# Altium footprint library TransientBLE.PcbLib: 43 footprints (part 1 of 3)
Each footprint in its own frame and in the unit in brackets; x right, y up, seen from the top. Pads: shape width x height; smd on the part's side, far side on the other; paste and mask are expansions set on the pad; w line width, h text height; cw(c..) or ccw(c..) is an arc to the next point about the centre after c.
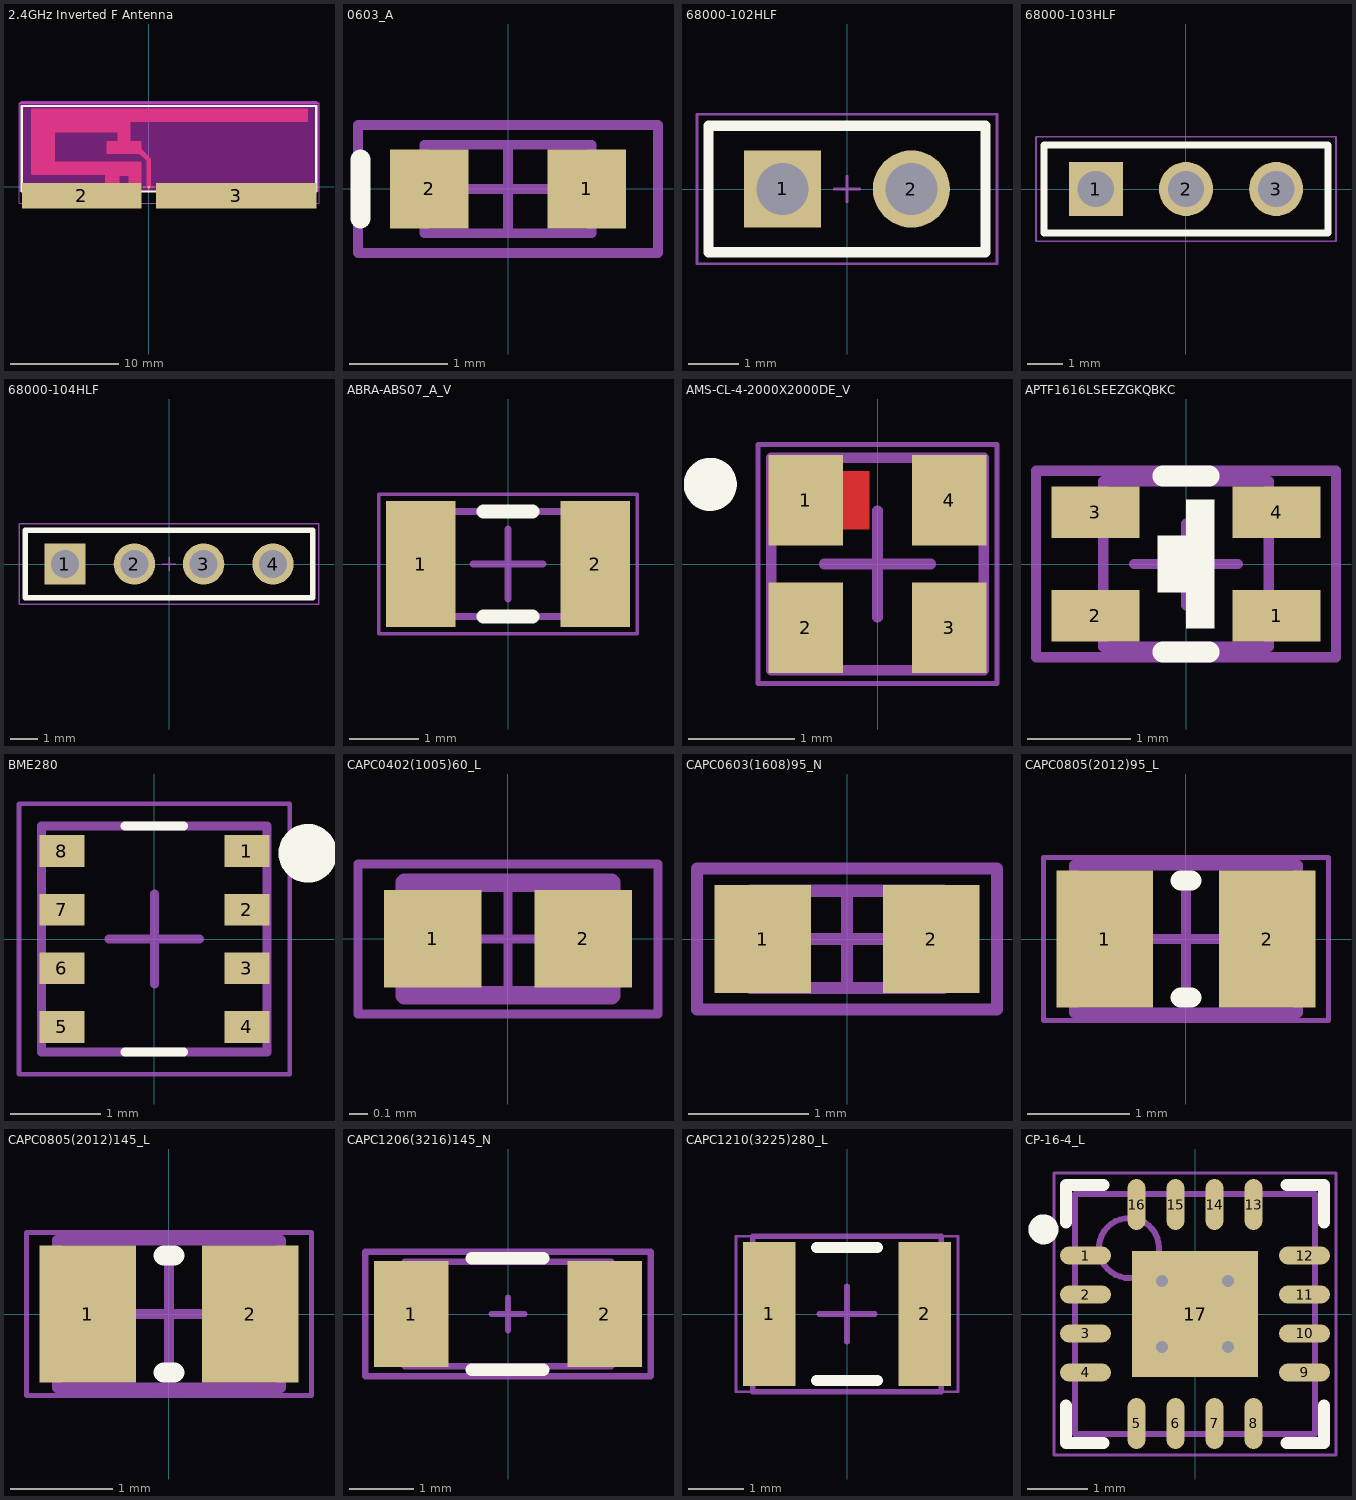
[diagram p0: the footprints below, top view; thin cyan lines are the x and y axes]

## 2.4GHz Inverted F Antenna [mm] "Antenna Patch, 2 pins, 1 side"
pads (3):
  rect 0.2x0.2 smd mask+0: 1(0,0)
  rect 11.06x2.355 smd: 2(-6.215,-0.823)
  rect 14.815x2.355 smd: 3(8.093,-0.823)
Top Layer:
  lines w0.203: -10.77,1.245 -0.787,1.245 ; -10.77,1.448 -0.787,1.448 ; -10.77,1.651 -0.787,1.651 ; -10.77,1.854 -0.787,1.854 ; -10.77,2.057 -0.787,2.057 ; -10.77,2.261 -0.787,2.261 ; -10.77,2.464 -8.787,2.464 ; -10.77,2.667 -8.787,2.667 ; -10.77,2.87 -8.787,2.87 ; -10.77,3.073 -8.787,3.073 ; -10.77,3.277 -8.787,3.277 ; -10.77,3.48 -8.787,3.48 ; -10.77,3.683 -8.787,3.683 ; -10.77,3.886 -8.787,3.886 ; -10.77,4.089 -8.787,4.089 ; -10.77,4.293 -8.787,4.293 ; -10.77,4.496 -8.787,4.496 ; -10.77,4.699 -8.787,4.699 ; -10.77,4.902 -8.787,4.902 ; -10.77,5.105 -8.787,5.105 ; -10.77,5.309 -1.787,5.309 ; -10.77,5.512 -1.787,5.512 ; -10.77,5.715 -1.787,5.715 ; -10.77,5.918 -1.787,5.918 ; -10.77,6.121 -1.787,6.121 ; -10.77,6.325 14.63,6.325 ; -10.77,6.528 14.63,6.528 ; -10.77,6.731 14.63,6.731 ; -10.77,6.934 14.63,6.934 ; -3.937,0.229 -2.787,0.229 ; -3.937,0.432 -2.787,0.432 ; -3.937,0.635 -2.787,0.635 ; -3.937,0.838 -2.787,0.838 ; -3.937,1.041 -2.787,1.041 ; -3.787,3.277 -0.787,3.277 ; -3.787,3.48 -0.787,3.48 ; -3.787,3.683 -0.787,3.683 ; -3.787,3.886 -0.787,3.886 ; -3.787,4.089 -0.787,4.089 ; -2.787,4.293 -1.787,4.293 ; -2.787,4.496 -1.787,4.496 ; -2.787,4.699 -1.787,4.699 ; -2.787,4.902 -1.787,4.902 ; -2.787,5.105 -1.787,5.105 ; -1.787,0.229 -0.787,0.229 ; -1.787,0.432 -0.787,0.432 ; -1.787,0.635 -0.787,0.635 ; -1.787,0.838 -0.787,0.838 ; -1.787,1.041 -0.787,1.041 ; -0.787,2.261 -0.787,0.127 -1.787,0.127 -1.787,1.127 -2.787,1.127 -2.787,0.127 -3.937,0.127 -3.937,1.168 -10.236,1.194 -10.77,1.194 -10.77,7.137 14.63,7.137 14.63,6.127 -1.787,6.127 -1.787,4.127 -0.787,4.127 -0.787,3.127 -3.787,3.127 -3.787,4.127 -2.787,4.127 -2.787,5.127 -8.787,5.127 -8.787,2.261 -0.787,2.261
  lines w0.457: -0.854,3.375 0,2.521 0,0
Top Overlay:
  lines w0.2: -11.75,-0.42 -11.75,7.5 15.5,7.5 15.5,-0.42 -11.75,-0.42
Mechanical 1:
  lines w0.2: -11.75,7.849 15.5,7.849
  text "Board Edge" at -5.5,8.75 h1.52
Mechanical 15:
  lines w0.05: -12,-1.5 -12,7.75 15.75,7.75 15.75,-1.5 -12,-1.5
  lines w0.1: -0.5,0 0.5,0 ; 0,-0.5 0,0.5
Multi-Layer keep-out:
  region: -12,7.849 15.75,7.849 15.75,-0.42 -12,-0.42

## 0603_A [mm] "Chip LED, 2-Leads, Body 1.6x0.8mm, IPC Medium Density"
height 0.68
pads (2):
  rect 0.8x0.8 smd: 1(0.8,0) 2(-0.8,0)
Top Overlay:
  lines w0.2: -1.5,-0.3 -1.5,0.3
Mechanical 13:
  lines w0.1: -0.85,-0.45 -0.85,0.45 0.85,0.45 0.85,-0.45 -0.85,-0.45
Mechanical 15:
  lines w0.1: -0.45,0 0.45,0 ; 0,-0.45 0,0.45 ; -1.525,-0.65 -1.525,0.65 1.525,0.65 1.525,-0.65 -1.525,-0.65
3D body "WL-SMCW_0603_LED.stp": height 0.7, standoff 0, extent -0.8,-0.4 0.8,0.4

## 68000-102HLF [mm] "Terminal Assembly, 1x2 Pins, Vertical, 2.54mm Pitch, Male"
height 8.25
pads (2):
  rect 1.52x1.52 hole 1.02: 1(-1.27,0)
  round 1.52 hole 1.02: 2(1.27,0)
Top Overlay:
  lines w0.2: -2.73,-1.245 -2.73,1.245 2.73,1.245 2.73,-1.245 -2.73,-1.245
Mechanical 12:
  lines w0.1: -2.73,1.245 -2.73,-1.245 2.73,-1.245 2.73,1.245 -2.73,1.245
Mechanical 15:
  lines w0.05: -0.254,0 0.254,0 ; 0,-0.254 0,0.254 ; -2.955,-1.47 -2.955,1.47 2.955,1.47 2.955,-1.47 -2.955,-1.47
3D body "68000-102HLF.step": height 8.39, standoff -2.4, extent -2.54,-1.206 2.54,1.207

## 68000-103HLF [mm] "Terminal Assembly, 3 Pin, Vertical, 2.54mm Pitch, Male"
height 8.25
pads (3):
  rect 1.52x1.52 hole 1.02: 1(-2.54,0)
  round 1.52 hole 1.02: 2(0,0) 3(2.54,0)
Top Overlay:
  lines w0.2: -4,-1.245 -4,1.245 4,1.245 4,-1.245 -4,-1.245
Mechanical 12:
  lines w0.1: -4,1.245 -4,-1.245 4,-1.245 4,1.245 -4,1.245
Mechanical 15:
  lines w0.05: -0.254,0 0.254,0 ; 0,-0.254 0,0.254 ; -4.225,-1.47 -4.225,1.47 4.225,1.47 4.225,-1.47 -4.225,-1.47
  lines w0.1: -0.254,0 0.254,0 ; 0,-0.254 0,0.254
3D body "68000-103HLF.step": height 8.39, standoff -2.4, extent -3.81,-1.206 3.81,1.207

## 68000-104HLF [mm] "CONN HEADER 4POS .100 STR 30AU"
height 8.25
pads (4):
  rect 1.52x1.52 hole 1.02: 1(-3.81,0)
  round 1.52 hole 1.02: 2(-1.27,0) 3(1.27,0) 4(3.81,0)
Top Overlay:
  lines w0.2: -5.27,-1.245 5.27,-1.245 5.27,1.245 -5.27,1.245 -5.27,-1.245
Mechanical 12:
  lines w0.1: -5.27,1.245 5.27,1.245 5.27,-1.245 -5.27,-1.245 -5.27,1.245
Mechanical 15:
  lines w0.05: -0.254,0 0.254,0 ; 0,-0.254 0,0.254 ; -5.495,-1.47 5.495,-1.47 5.495,1.47 -5.495,1.47 -5.495,-1.47
3D body "68000-104HLF.step": height 8.39, standoff -2.4, extent -5.08,-1.206 5.08,1.207

## ABRA-ABS07_A_V [mm] "SMD, 2-Leads, Body 3.2x1.5mm"
height 0.9
pads (2):
  rect 1x1.8 smd: 1(-1.25,0) 2(1.25,0)
Top Overlay:
  lines w0.2: -0.35,-0.75 0.35,-0.75 ; -0.35,0.75 0.35,0.75
Mechanical 13:
  lines w0.1: -1.6,-0.75 1.6,-0.75 1.6,0.75 -1.6,0.75 -1.6,-0.75
Mechanical 15:
  lines w0.05: -1.85,-1 1.85,-1 1.85,1 -1.85,1 -1.85,-1
  lines w0.1: -0.5,0 0.5,0 ; 0,-0.5 0,0.5
3D body "ABS07.STEP": height 0.9, standoff 0.01, extent -1.6,-0.749 1.6,0.749

## AMS-CL-4-2000X2000DE_V [mm] "CL, 4-Leads, Body 2x2mm"
height 0.8
pads (4):
  rect 0.7x0.85 smd: 1(-0.675,0.6) 2(-0.675,-0.6) 3(0.675,-0.6) 4(0.675,0.6)
Top Layer:
  rectangle: -1.027,0.325 -0.077,0.875
Top Overlay:
  circle w0.25: c-1.575,0.75 r0.125
Mechanical 13:
  lines w0.1: -1,-1 -1,1 1,1 1,-1 -1,-1
Mechanical 15:
  lines w0.05: -1.125,-1.125 1.125,-1.125 1.125,1.125 -1.125,1.125 -1.125,-1.125
  lines w0.1: -0.5,0 0.5,0 ; 0,-0.5 0,0.5
3D body: height 0.8, standoff 0, extent -1,-1 1,1

## APTF1616LSEEZGKQBKC [mm]
height 0.9
pads (4):
  rect 0.85x0.5 smd: 1(0.875,-0.5) 2(-0.875,-0.5) 3(-0.875,0.5) 4(0.875,0.5)
Top Overlay:
  rectangle: 0,-0.625 0.275,0.625
  rectangle: -0.275,-0.275 0.025,0.275
  lines w0.2: -0.225,-0.85 0.225,-0.85 ; -0.225,0.85 0.225,0.85
Mechanical 1:
  lines w0.102: -0.8,-0.8 -0.8,0.8 0.8,0.8 0.8,-0.8 -0.8,-0.8
  text ".Designator" at -0.45,-0.16 h0.6
Mechanical 15:
  lines w0.1: -0.5,0 0.5,0 ; 0,-0.4 0,0.39 ; -1.45,-0.9 -1.45,0.9 1.45,0.9 1.45,-0.9 -1.45,-0.9
3D body "APTF1616.STEP": height 0.7, standoff 0, extent -0.8,-0.8 0.8,0.8

## BME280 [mm] "LGA, 8-Leads, Body 2x2.50mmx0.95mm, Pitch 0.65mm"
height 1
pads (8):
  rect 0.5x0.35 smd: 1(1.025,0.975) 2(1.025,0.325) 3(1.025,-0.325) 4(1.025,-0.975) 5(-1.025,-0.975) 6(-1.025,-0.325) 7(-1.025,0.325) 8(-1.025,0.975)
Top Overlay:
  circle w0.4: c1.7,0.95 r0.125
  lines w0.1: -0.325,-1.25 0.325,-1.25 ; -0.325,1.25 0.325,1.25
Mechanical 12:
  lines w0.1: -1.25,-1.25 -1.25,1.25 1.25,1.25 1.25,-1.25 -1.25,-1.25
Mechanical 15:
  lines w0.05: -1.5,-1.5 1.5,-1.5 1.5,1.5 -1.5,1.5 -1.5,-1.5
  lines w0.1: -0.5,0 0.5,0 ; 0,-0.5 0,0.5
3D body "User Library-Bosch_BME280.step": height 0.94, standoff 0.01, extent -1.25,-1.25 1.25,1.25

## CAPC0402(1005)60_L [mm] "Chip Capacitor, Body 1.0x0.5mm, Height 0.6mm, IPC High Density"
height 0.6
pads (2):
  rect 0.52x0.52 smd: 1(-0.4,0) 2(0.4,0)
Mechanical 13:
  lines w0.1: -0.55,-0.3 -0.55,0.3 0.55,0.3 0.55,-0.3 -0.55,-0.3
Mechanical 15:
  lines w0.05: -0.3,0 0.3,0 ; 0,-0.3 0,0.3 ; -0.8,-0.4 -0.8,0.4 0.8,0.4 0.8,-0.4 -0.8,-0.4
3D body: height 0.6, standoff 0, extent -0.3,-0.3 0.3,0.3
3D body: height 0.6, standoff 0, extent -0.55,-0.3 -0.3,0.3
3D body: height 0.6, standoff 0, extent 0.3,-0.3 0.55,0.3

## CAPC0603(1608)95_N [mm]
height 0.8
pads (2):
  rect 0.8x0.9 smd: 1(-0.7,0) 2(0.7,0)
Mechanical 1:
  lines w0.102: -0.8,-0.406 0.8,-0.406 0.8,0.4 -0.8,0.4 -0.8,-0.406
  text ".Designator" at -0.45,-0.16 h0.6
Mechanical 15:
  lines w0.1: -0.5,0 0.5,0 ; 0,-0.4 0,0.39 ; -1.245,-0.584 1.245,-0.584 1.245,0.584 -1.245,0.584 -1.245,-0.584
3D body "1608Cap.step": height 0.79, standoff -0.01, extent -0.8,-0.4 0.8,0.4

## CAPC0805(2012)95_L [mm] "Chip Capacitor, Body 2.0x1.2mm, Height 0.95mm, IPC High Density"
height 0.95
pads (2):
  rect 0.95x1.35 smd: 1(-0.8,0) 2(0.8,0)
Top Overlay:
  lines w0.2: -0.05,-0.575 0.05,-0.575 ; -0.05,0.575 0.05,0.575
Mechanical 13:
  lines w0.1: -1.1,-0.725 -1.1,0.725 1.1,0.725 1.1,-0.725 -1.1,-0.725
Mechanical 15:
  lines w0.05: -1.4,-0.8 -1.4,0.8 1.4,0.8 1.4,-0.8 -1.4,-0.8
  lines w0.1: -0.5,0 0.5,0 ; 0,-0.5 0,0.5
3D body: height 0.95, standoff 0, extent -0.6,-0.725 0.6,0.725
3D body: height 0.95, standoff 0, extent -1.1,-0.725 -0.6,0.725
3D body: height 0.95, standoff 0, extent 0.6,-0.725 1.1,0.725

## CAPC0805(2012)145_L [mm] "Chip Capacitor, Body 2.0x1.2mm, Height 1.45mm, IPC High Density"
height 1.45
pads (2):
  rect 0.95x1.35 smd: 1(-0.8,0) 2(0.8,0)
Top Overlay:
  lines w0.2: -0.05,-0.575 0.05,-0.575 ; -0.05,0.575 0.05,0.575
Mechanical 13:
  lines w0.1: -1.1,-0.725 -1.1,0.725 1.1,0.725 1.1,-0.725 -1.1,-0.725
Mechanical 15:
  lines w0.05: -1.4,-0.8 -1.4,0.8 1.4,0.8 1.4,-0.8 -1.4,-0.8
  lines w0.1: -0.5,0 0.5,0 ; 0,-0.5 0,0.5
3D body: height 1.45, standoff 0, extent -0.6,-0.725 0.6,0.725
3D body: height 1.45, standoff 0, extent -1.1,-0.725 -0.6,0.725
3D body: height 1.45, standoff 0, extent 0.6,-0.725 1.1,0.725

## CAPC1206(3216)145_N [mm]
height 1.45
pads (2):
  rect 1.15x1.65 smd: 1(-1.5,0) 2(1.5,0)
Top Overlay:
  lines w0.2: -0.559,-0.864 0.541,-0.864 ; -0.559,0.864 0.541,0.864
Mechanical 1:
  lines w0.102: -1.6,-0.813 1.6,-0.813 1.6,0.813 -1.6,0.813 -1.6,-0.813
  text ".Designator" at -0.61,-0.14 h0.6
Mechanical 15:
  lines w0.1: -0.254,0 0.254,0 ; 0,-0.254 0,0.254 ; -2.21,-0.965 2.21,-0.965 2.21,0.965 -2.21,0.965 -2.21,-0.965
3D body "cap_1206-1.STEP": height 1.6, standoff 0, extent -1.6,-0.8 1.6,0.8

## CAPC1210(3225)280_L [mm] "Chip Capacitor, Body 3.2x2.5mm, Height 2.8mm, IPC High Density"
height 2.8
pads (2):
  rect 0.95x2.6 smd: 1(-1.4,0) 2(1.4,0)
Top Overlay:
  lines w0.2: -0.55,-1.2 0.55,-1.2 ; -0.55,1.2 0.55,1.2
Mechanical 13:
  lines w0.1: -1.7,-1.4 -1.7,1.4 1.7,1.4 1.7,-1.4 -1.7,-1.4
Mechanical 15:
  lines w0.05: -2,-1.4 -2,1.4 2,1.4 2,-1.4 -2,-1.4
  lines w0.1: -0.5,0 0.5,0 ; 0,-0.5 0,0.5
3D body: height 2.8, standoff 0, extent -1.2,-1.4 1.2,1.4
3D body: height 2.8, standoff 0, extent -1.7,-1.4 -1.2,1.4
3D body: height 2.8, standoff 0, extent 1.2,-1.4 1.7,1.4

## CP-16-4_L [mm] "QFN, 16-Leads, Body 4x4mm, Pitch 0.65mm, Thermal Pad 2.1x2.1mm, IPC High Density"
height 1
pads (17):
  oval 0.85x0.3 smd: 1(-1.825,0.975) 2(-1.825,0.325) 3(-1.825,-0.325) 4(-1.825,-0.975) 9(1.825,-0.975) 10(1.825,-0.325) 11(1.825,0.325) 12(1.825,0.975)
  oval 0.3x0.85 smd: 5(-0.975,-1.825) 6(-0.325,-1.825) 7(0.325,-1.825) 8(0.975,-1.825) 13(0.975,1.825) 14(0.325,1.825) 15(-0.325,1.825) 16(-0.975,1.825)
  rect 2.1x2.1 smd: 17(0,0)
via -0.55,0.55 diameter 0.55 hole 0.2
via 0.55,0.55 diameter 0.55 hole 0.2
via -0.55,-0.55 diameter 0.55 hole 0.2
via 0.55,-0.55 diameter 0.55 hole 0.2
Top Overlay:
  circle w0.25: c-2.526,1.411 r0.125
  lines w0.2: -2.15,-1.525 -2.15,-2.15 -1.525,-2.15 ; -2.15,1.525 -2.15,2.15 -1.525,2.15 ; 1.525,-2.15 2.15,-2.15 2.15,-1.525 ; 1.525,2.15 2.15,2.15 2.15,1.525
Mechanical 13:
  circle w0.1: c-1.1,1.1 r0.5
  lines w0.1: -2,-2 -2,2 2,2 2,-2 -2,-2
Mechanical 15:
  lines w0.05: -2.35,-2.35 -2.35,2.35 2.35,2.35 2.35,-2.35 -2.35,-2.35
  lines w0.1: -0.5,0 0.5,0 ; 0,-0.5 0,0.5
3D body: height 1, standoff 0, extent -2,-2 2,2